# Altium schematic symbol library 19-Opt_lib.SchLib: 4 symbols
Pins are listed as number, name and electrical type; pins without a type are passive.

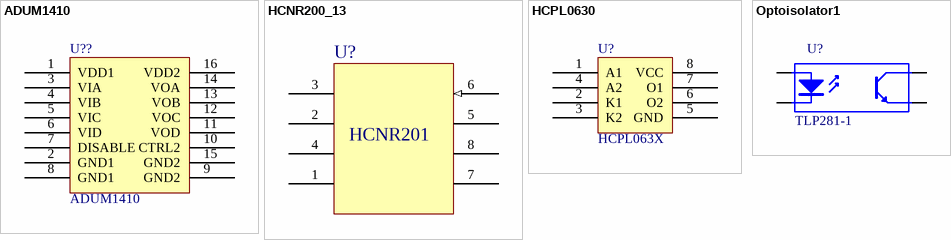
[diagram p0: symbols ADUM1410 to Optoisolator1]

## ADUM1410
designator U??
磁耦隔离
footprint SOIC16(ADUM1410)
pins: 1 VDD1, 2 GND1, 3 VIA, 4 VIB, 5 VIC, 6 VID, 7 DISABLE, 8 GND1, 9 GND2, 10 CTRL2, 11 VOD, 12 VOC, 13 VOB, 14 VOA, 15 GND2, 16 VDD2

## HCNR200_13
designator U?, comment HCNR201
线性光耦
footprint WSOP8
pins: 1, 2, 3, 4, 5, 6 (in), 7, 8
2 alternate drawings of the same symbol

## HCPL0630
designator U?, comment HCPL063X
光耦隔离
footprint SO-8
pins: 1 A1, 2 K1, 3 K2, 4 A2, 5 GND, 6 O2, 7 O1, 8 VCC
2 alternate drawings of the same symbol

## Optoisolator1
designator U?, comment TLP281-1
4-Pin Phototransistor Optocoupler; Published: 24-Mar-1999; LatestRevisionDate: 04-Mar-2005; LatestRevisionNote: Sch pins 3 & 4 Swapped.; DatasheetDocument: Nov-2003; PackageReference: DIP-4; Publisher: Altium Limited
footprint SOP4
footprint sop4
pins: 1 A, 2 K, 3 E, 4 C
2 alternate drawings of the same symbol